# Altium schematic symbol library VOT8121.Schlib: 1 symbol
Pins are listed as number, name and electrical type; pins without a type are passive.

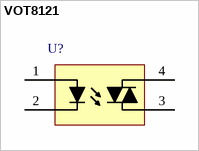
[diagram p0: symbol VOT8121]

## VOT8121
designator U?  (value not drawn)
4-pin Opto-Triac
pins: 1 A, 2 C, 3 MT1, 4 MT2